# EAGLE library part HARWIN_6PIN (library DSDEagleLibrary)
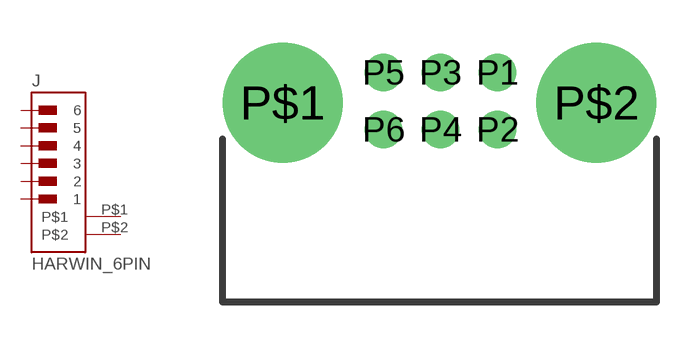
[diagram p9: symbol with the pads of HARWIN_6PIN; footprint HARWIN_6PIN]

Designator prefix J

## HARWIN_6PIN  [HARWIN_6PIN]
P1  1
P2  2
P3  3
P4  4
P5  5
P6  6
P$1  P$1
P$2  P$2

## Footprint HARWIN_6PIN (pad centres in mm)
drill 0.8: P1 2.039,1.056; P2 2.039,-0.944; P3 0.039,1.056; P4 0.039,-0.944; P5 -1.961,1.056; P6 -1.961,-0.944
drill 2.2 pad 4.2: P$1 -5.5,0; P$2 5.5,0